# Altium footprint library ESP32WROOM32E.PcbLib: 1 footprints
Each footprint in its own frame and in the unit in brackets; x right, y up, seen from the top. Pads: shape width x height; smd on the part's side, far side on the other; paste and mask are expansions set on the pad; w line width, h text height; cw(c..) or ccw(c..) is an arc to the next point about the centre after c.
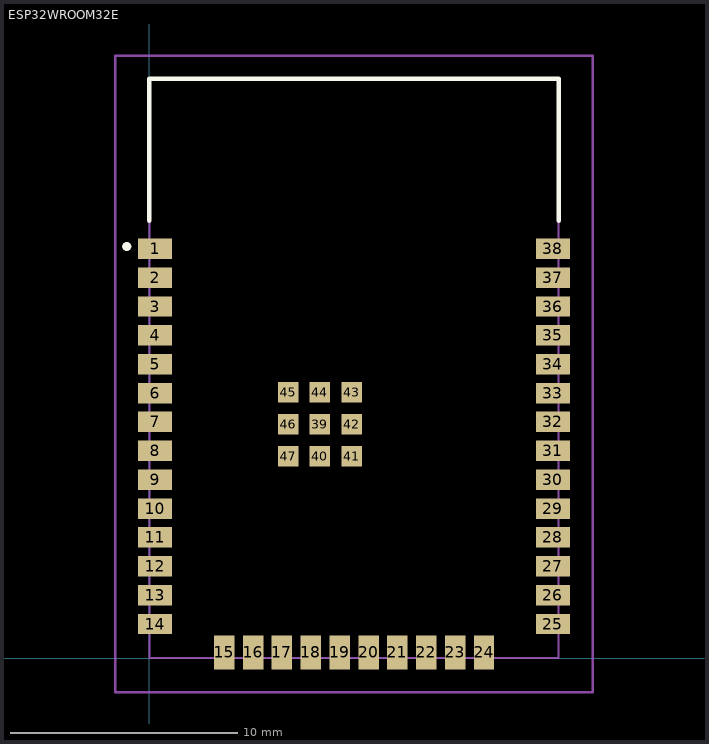
[diagram p0: the footprint, top view; thin cyan lines are the x and y axes]

## ESP32WROOM32E [mm]
pads (47):
  rect 1.5x0.9 smd: 1(0.25,18.01) 2(0.25,16.74) 3(0.25,15.47) 4(0.25,14.2) 5(0.25,12.93) 6(0.25,11.66) 7(0.25,10.39) 8(0.25,9.12) 9(0.25,7.85) 10(0.25,6.58) 11(0.25,5.31) 12(0.25,4.04) 13(0.25,2.77) 14(0.25,1.5) 25(17.75,1.5) 26(17.75,2.77) 27(17.75,4.04) 28(17.75,5.31) 29(17.75,6.58) 30(17.75,7.85) 31(17.75,9.12) 32(17.75,10.39) 33(17.75,11.66) 34(17.75,12.93) 35(17.75,14.2) 36(17.75,15.47) 37(17.75,16.74) 38(17.75,18.01)
  rect 0.9x1.5 smd: 15(3.29,0.25) 16(4.56,0.25) 17(5.83,0.25) 18(7.1,0.25) 19(8.37,0.25) 20(9.64,0.25) 21(10.91,0.25) 22(12.18,0.25) 23(13.45,0.25) 24(14.72,0.25)
  rect 0.9x0.9 smd: 39(7.5,10.29) 40(7.5,8.89) 41(8.9,8.89) 42(8.9,10.29) 43(8.9,11.69) 44(7.5,11.69) 45(6.1,11.69) 46(6.1,10.29) 47(6.1,8.89)
Top Overlay:
  lines w0.2: 0,19.25 0,25.5 18,25.5 18,19.25 ; -1,18.01 cw(c-1,18.11) -1,18.21 ; -1,18.01 -1,18.01 ; -1,18.01 ccw(c-1,18.11) -1,18.21 ; -1,18.21 -1,18.21
Mechanical 15:
  lines w0.1: 0,0 18,0 18,25.5 0,25.5 0,0
Mechanical 20:
  lines w0.1: -1.5,-1.5 19.5,-1.5 19.5,26.5 -1.5,26.5 -1.5,-1.5